# EAGLE library part SAMR21E (library Atmel-SAMR21)
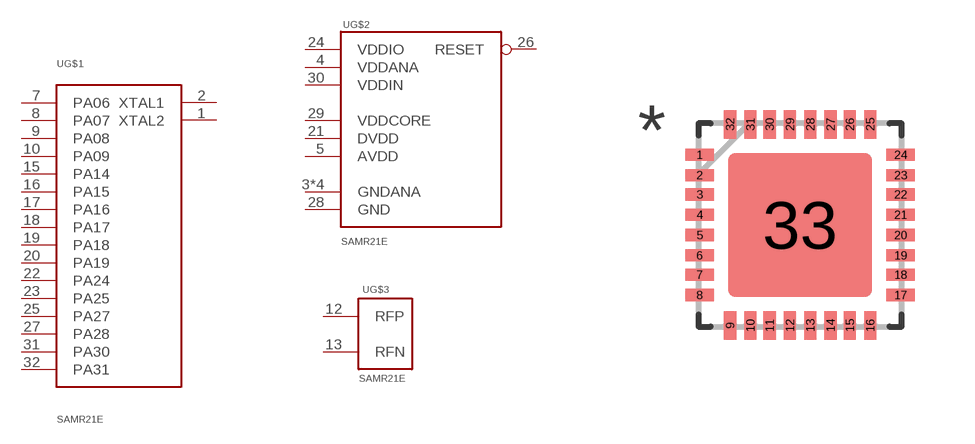
[diagram p0: symbol with the pads of QFN50P500X500X100-33N; footprint QFN50P500X500X100-33N]

Designator prefix -; gates G$1=SAMR21E-IO G$2=SAMR21G-PWR G$3=SAMR21E-RF

## SAMR21E  [QFN50P500X500X100-33N]
1  G$1:XTAL2  oc
2  G$1:XTAL1  oc
3  G$2:GNDANA  pwr
4  G$2:VDDANA  pwr
5  G$2:AVDD  pwr
6  G$2:GNDANA  pwr
7  G$1:PA06
8  G$1:PA07
9  G$1:PA08
10  G$1:PA09
11  G$2:GNDANA  pwr
12  G$3:RFP
13  G$3:RFN
14  G$2:GNDANA  pwr
15  G$1:PA14
16  G$1:PA15
17  G$1:PA16
18  G$1:PA17
19  G$1:PA18
20  G$1:PA19
21  G$2:DVDD  pwr
22  G$1:PA24
23  G$1:PA25
24  G$2:VDDIO  pwr
25  G$1:PA27
26  G$2:RESET  pwr
27  G$1:PA28
28  G$2:GND  pwr
29  G$2:VDDCORE  pwr
30  G$2:VDDIN  pwr
31  G$1:PA30
32  G$1:PA31

## Footprint QFN50P500X500X100-33N (pad centres in mm)
smd 0.711 x 0.305: 1 -2.515,1.753; 2 -2.515,1.245; 3 -2.515,0.762; 4 -2.515,0.254; 5 -2.515,-0.254; 6 -2.515,-0.762; 7 -2.515,-1.245; 8 -2.515,-1.753; 17 2.515,-1.753; 18 2.515,-1.245; 19 2.515,-0.762; 20 2.515,-0.254; 21 2.515,0.254; 22 2.515,0.762; 23 2.515,1.245; 24 2.515,1.753
smd 0.305 x 0.711: 9 -1.753,-2.515; 10 -1.245,-2.515; 11 -0.762,-2.515; 12 -0.254,-2.515; 13 0.254,-2.515; 14 0.762,-2.515; 15 1.245,-2.515; 16 1.753,-2.515; 25 1.753,2.515; 26 1.245,2.515; 27 0.762,2.515; 28 0.254,2.515; 29 -0.254,2.515; 30 -0.762,2.515; 31 -1.245,2.515; 32 -1.753,2.515
smd 3.6 x 3.6: 33 0,0